# Altium footprint library avx-connector.PcbLib: 1 footprints
Each footprint in its own frame and in the unit in brackets; x right, y up, seen from the top. Pads: shape width x height; smd on the part's side, far side on the other; paste and mask are expansions set on the pad; w line width, h text height; cw(c..) or ccw(c..) is an arc to the next point about the centre after c.
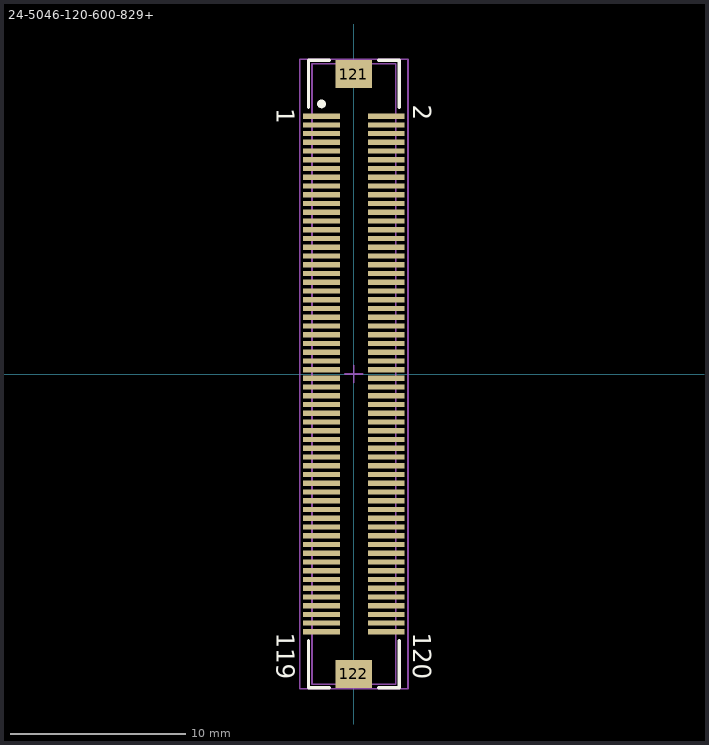
[diagram p0: the footprint, top view; thin cyan lines are the x and y axes]

## 24-5046-120-600-829+ [mm] "Board to Board Connector F 120POS 0.5mm SMD"
height 2.5
pads (122):
  rect 2.1x0.3 smd: 1(-1.85,14.75) 2(1.85,14.75) 3(-1.85,14.25) 4(1.85,14.25) 5(-1.85,13.75) 6(1.85,13.75) 7(-1.85,13.25) 8(1.85,13.25) 9(-1.85,12.75) 10(1.85,12.75) 11(-1.85,12.25) 12(1.85,12.25) 13(-1.85,11.75) 14(1.85,11.75) 15(-1.85,11.25) 16(1.85,11.25) 17(-1.85,10.75) 18(1.85,10.75) 19(-1.85,10.25) 20(1.85,10.25) 21(-1.85,9.75) 22(1.85,9.75) 23(-1.85,9.25) 24(1.85,9.25) 25(-1.85,8.75) 26(1.85,8.75) 27(-1.85,8.25) 28(1.85,8.25) 29(-1.85,7.75) 30(1.85,7.75) 31(-1.85,7.25) 32(1.85,7.25) 33(-1.85,6.75) 34(1.85,6.75) 35(-1.85,6.25) 36(1.85,6.25) 37(-1.85,5.75) 38(1.85,5.75) 39(-1.85,5.25) 40(1.85,5.25) 41(-1.85,4.75) 42(1.85,4.75) 43(-1.85,4.25) 44(1.85,4.25) 45(-1.85,3.75) 46(1.85,3.75) 47(-1.85,3.25) 48(1.85,3.25) 49(-1.85,2.75) 50(1.85,2.75) 51(-1.85,2.25) 52(1.85,2.25) 53(-1.85,1.75) 54(1.85,1.75) 55(-1.85,1.25) 56(1.85,1.25) 57(-1.85,0.75) 58(1.85,0.75) 59(-1.85,0.25) 60(1.85,0.25) 61(-1.85,-0.25) 62(1.85,-0.25) 63(-1.85,-0.75) 64(1.85,-0.75) 65(-1.85,-1.25) 66(1.85,-1.25) 67(-1.85,-1.75) 68(1.85,-1.75) 69(-1.85,-2.25) 70(1.85,-2.25) 71(-1.85,-2.75) 72(1.85,-2.75) 73(-1.85,-3.25) 74(1.85,-3.25) 75(-1.85,-3.75) 76(1.85,-3.75) 77(-1.85,-4.25) 78(1.85,-4.25) 79(-1.85,-4.75) 80(1.85,-4.75) 81(-1.85,-5.25) 82(1.85,-5.25) 83(-1.85,-5.75) 84(1.85,-5.75) 85(-1.85,-6.25) 86(1.85,-6.25) 87(-1.85,-6.75) 88(1.85,-6.75) 89(-1.85,-7.25) 90(1.85,-7.25) 91(-1.85,-7.75) 92(1.85,-7.75) 93(-1.85,-8.25) 94(1.85,-8.25) 95(-1.85,-8.75) 96(1.85,-8.75) 97(-1.85,-9.25) 98(1.85,-9.25) 99(-1.85,-9.75) 100(1.85,-9.75) 101(-1.85,-10.25) 102(1.85,-10.25) 103(-1.85,-10.75) 104(1.85,-10.75) 105(-1.85,-11.25) 106(1.85,-11.25) 107(-1.85,-11.75) 108(1.85,-11.75) 109(-1.85,-12.25) 110(1.85,-12.25) 111(-1.85,-12.75) 112(1.85,-12.75) 113(-1.85,-13.25) 114(1.85,-13.25) 115(-1.85,-13.75) 116(1.85,-13.75) 117(-1.85,-14.25) 118(1.85,-14.25) 119(-1.85,-14.75) 120(1.85,-14.75)
  rect 2.1x1.6 smd: 121(0,17.15) 122(0,-17.15)
Top Overlay:
  circle w0.25: c-1.85,15.45 r0.125
  lines w0.18: -2.6,-15.25 -2.6,-17.95 -1.4,-17.95 ; -2.6,15.25 -2.6,17.95 -1.4,17.95 ; 1.4,-17.95 2.6,-17.95 2.6,-15.25 ; 1.4,17.95 2.6,17.95 2.6,15.25
  text "119" at -4.4,-14.8 h1.02
  text "120" at 3.4,-14.8 h1.02
  text "2" at 3.4,15.4 h1.02
  text "1" at -4.4,15.2 h1.02
Mechanical 13:
  lines w0.1: -2.4,-17.75 2.4,-17.75 2.4,17.75 -2.4,17.75 -2.4,-17.75
Mechanical 15:
  lines w0.1: -0.5,0 0.5,0 ; 0,-0.5 0,0.5 ; -3.1,-18 -3.1,18 3.1,18 3.1,-18 -3.1,-18
3D body: height 1.4, standoff 0.1, extent -2.4,-17.75 2.4,17.75
3D body: height 2.5, standoff 0.1, extent -1.257,-15.24 1.27,15.24
3D body: height 2.1, standoff 0.2, extent 0.635,-16.383 2.413,16.256
3D body: height 2.1, standoff 0.2, extent -2.413,-16.383 -0.635,16.256